# Altium schematic symbol library pinbits.SchLib: 4 symbols
Pins are listed as number, name and electrical type; pins without a type are passive.

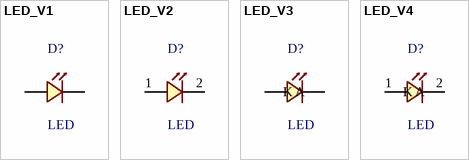
[diagram p0: symbols LED_V1 to LED_V4]

## LED_V1
designator D?, comment LED
Generic light-emitting diode
pins: 1 A, 2 K

## LED_V2
designator D?, comment LED
Generic light-emitting diode
pins: 1 A, 2 K

## LED_V3
designator D?, comment LED
Generic light-emitting diode
pins: 1 A, 2 K

## LED_V4
designator D?, comment LED
Generic light-emitting diode
pins: 1 A, 2 K